# Altium schematic symbol library pin4header.SchLib: 1 symbol
Pins are listed as number, name and electrical type; pins without a type are passive.

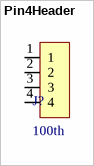
[diagram p0: symbol Pin4Header]

## Pin4Header
designator J?, comment 100th
footprint pin4header
pins: 1, 2, 3, 4